# Altium schematic symbol library PCB0814.SchLib: 3 symbols
Pins are listed as number, name and electrical type; pins without a type are passive.

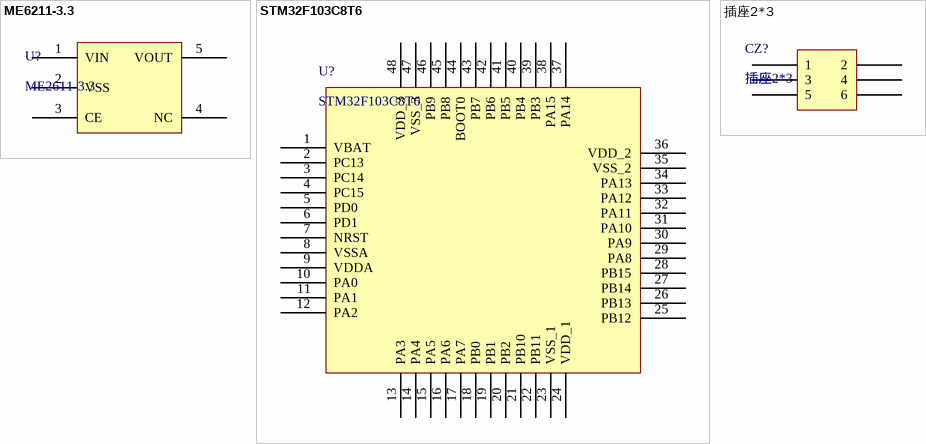
[diagram p0: symbols ME6211-3.3 to 插座2*3]

## ME6211-3.3
designator U?, comment ME2611-3.3
footprint SOT-23-5
pins: 1 VIN, 2 VSS, 3 CE, 4 NC, 5 VOUT

## STM32F103C8T6
designator U?
footprint LQFP-48 (LQFP, 48-Leads, Body 7.10x7.10mm, Pitch 0.50mm, IPC Medium Density)
pins: 1 VBAT, 2 PC13, 3 PC14, 4 PC15, 5 PD0, 6 PD1, 7 NRST, 8 VSSA, 9 VDDA, 10 PA0, 11 PA1, 12 PA2, 13 PA3, 14 PA4, 15 PA5, 16 PA6, 17 PA7, 18 PB0, 19 PB1, 20 PB2, 21 PB10, 22 PB11, 23 VSS_1, 24 VDD_1, 25 PB12, 26 PB13, 27 PB14, 28 PB15, 29 PA8, 30 PA9, 31 PA10, 32 PA11, 33 PA12, 34 PA13, 35 VSS_2, 36 VDD_2, 37 PA14, 38 PA15, 39 PB3, 40 PB4, 41 PB5, 42 PB6, 43 PB7, 44 BOOT0, 45 PB8, 46 PB9, 47 VSS_3, 48 VDD_3

## 插座2*3
designator CZ?
footprint HDR2X3 (Connector; Header; 3x2 Position)
pins: ?1 1, ?2 3, ?3 5, ?4 6, ?5 4, ?6 2